# Altium footprint library BM02B-NSHSS-TBT.PcbLib: 1 footprints
Each footprint in its own frame and in the unit in brackets; x right, y up, seen from the top. Pads: shape width x height; smd on the part's side, far side on the other; paste and mask are expansions set on the pad; w line width, h text height; cw(c..) or ccw(c..) is an arc to the next point about the centre after c.
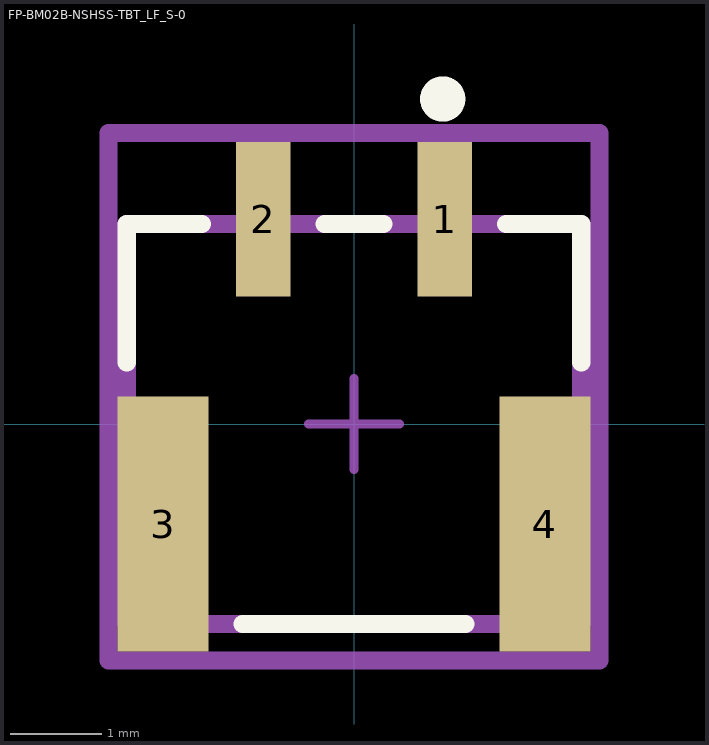
[diagram p0: the footprint, top view; thin cyan lines are the x and y axes]

## FP-BM02B-NSHSS-TBT_LF_S-0 [mm]
pads (4):
  rect 0.6x1.7 smd paste+0 mask+0: 1(1,2.25) 2(-1,2.25)
  rect 1x2.8 smd paste+0 mask+0: 3(-2.1,-1.1) 4(2.1,-1.1)
Top Overlay:
  circle w0.25: c0.975,3.575 r0.125
  lines w0.2: -2.5,0.675 -2.5,2.2 -1.675,2.2 ; -1.225,-2.2 1.225,-2.2 ; -0.325,2.2 0.325,2.2 ; 1.675,2.2 2.5,2.2 2.5,0.675
Top Assembly:
  lines w0.2: -2.7,-2.6 -2.7,3.2 2.7,3.2 2.7,-2.6 -2.7,-2.6
  text ".Designator" at 0,0.488 h1
Top 3D Body:
  lines w0.2: -2.5,-2.2 -2.5,2.2 2.5,2.2 2.5,-2.2 -2.5,-2.2
Top Courtyard:
  lines w0.2: -2.7,-2.6 -2.7,3.2 2.7,3.2 2.7,-2.6 -2.7,-2.6
Top Component Center:
  lines w0.1: -0.5,0 0.5,0 ; 0,-0.5 0,0.5
3D body "Conn_JST_BM02B-NSHSS-TBT_LF_SN_eec.STEP": height 0.25, standoff 0, extent -2.7,-2.6 2.7,3.2